# Altium integrated library CN3795.IntLib: 1 symbol
Pins are listed as number, name and electrical type; pins without a type are passive.

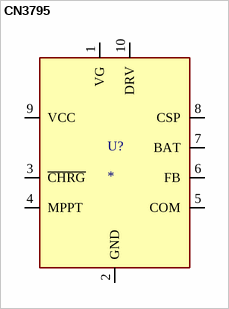
[diagram p0: symbol CN3795]

## CN3795
designator U?
4A, Multi-Chemistry Battery ChargerWith Photovoltaic Cell MPPT Function; MP: CN3795; MF: Consonance; Price: None; SnapEDA_Link: https://www.snapeda.com/parts/CN3795/Consonance/view-part/?ref=snap; Check_prices: https://www.snapeda.com/parts/CN3795/Consonance/view-part/?ref=eda; Package: Package; Availability: Not in stock; Value: *
footprint SSOP10
pins: 1 VG (io), 2 GND (io), 3 ~{CHRG} (io), 4 MPPT (io), 5 COM (io), 6 FB (io), 7 BAT (io), 8 CSP (io), 9 VCC (io), 10 DRV (io)